# Altium schematic symbol library OPA1612AIDR.SchLib: 1 symbol
Pins are listed as number, name and electrical type; pins without a type are passive.

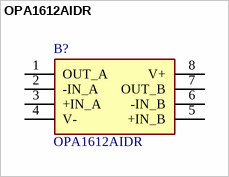
[diagram p0: symbol OPA1612AIDR]

## OPA1612AIDR
designator B?
SoundPlus Audio Operational Amplifier with 1.1nV/Hz Noise, Low THD and Precision; Manufacturer_Name: Texas Instruments; Geometry.Height: 1.75mm; Manufacturer_Part_Number: OPA1612AIDR; Mouser Part Number: 595-OPA1612AIDR; Mouser Price/Stock: https://www.mouser.co.uk/ProductDetail/Texas-Instruments/OPA1612AIDR?qs=6805eV47HhYG%252BLJtIoYNNw%3D%3D; Arrow Part Number: OPA1612AIDR; Arrow Price/Stock: https://www.arrow.com/en/products/opa1612aidr/texas-instruments?region=nac; Datasheet Link: http://www.ti.com/lit/ds/symlink/opa1612.pdf
footprint SOIC127P600X175-8N
pins: 1 OUT_A, 2 -IN_A, 3 +IN_A, 4 V-, 5 +IN_B, 6 -IN_B, 7 OUT_B, 8 V+